# EAGLE library part ASTAR32U4MINI (library weller-eagle)
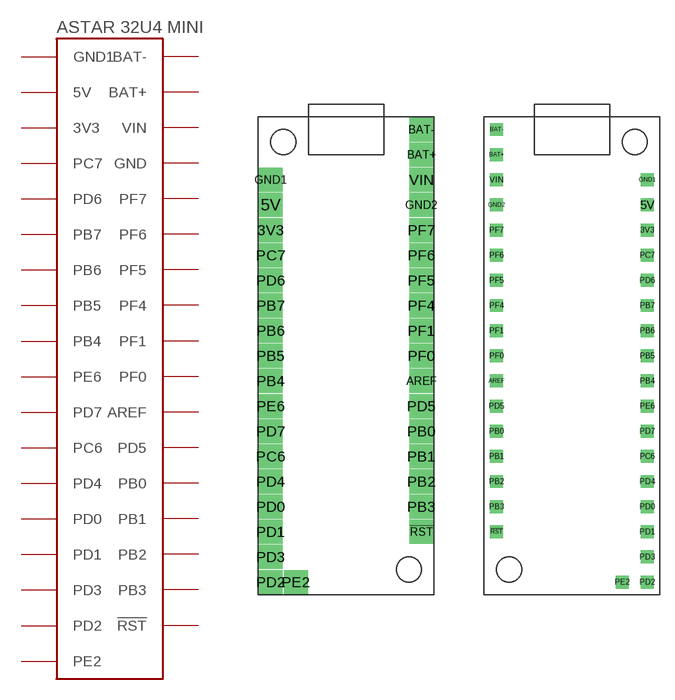
[diagram p1: symbol with the pads of ASTAR32U4MINI; footprints ASTAR32U4MINI, ASTAR32U4MINI-REV]

Designator prefix -

## ASTAR32U4MINI  [ASTAR32U4MINI]
3V3  3V3
5V  5V
!RST  !RST
AREF  AREF
BAT+  BAT+
BAT-  BAT-
GND1  GND
GND2  GND1
PB0  PB0
PB1  PB1
PB2  PB2
PB3  PB3
PB4  PB4
PB5  PB5
PB6  PB6
PB7  PB7
PC6  PC6
PC7  PC7
PD0  PD0
PD1  PD1
PD2  PD2
PD3  PD3
PD4  PD4
PD5  PD5
PD6  PD6
PD7  PD7
PE2  PE2
PE6  PE6
PF0  PF0
PF1  PF1
PF4  PF4
PF5  PF5
PF6  PF6
PF7  PF7
VIN  VIN

## ASTAR32U4MINIMIRROR  [ASTAR32U4MINI-REV]
Pads as for ASTAR32U4MINI

## Footprint ASTAR32U4MINI (pad centres in mm)
drill 1.62 pad 2.134 square: 3V3 1.27,36.83; 5V 1.27,39.37; !RST 16.51,6.35; AREF 16.51,21.59; BAT+ 16.51,44.45; BAT- 16.51,46.99; GND1 1.27,41.91; GND2 16.51,39.37; PB0 16.51,16.51; PB1 16.51,13.97; PB2 16.51,11.43; PB3 16.51,8.89; PB4 1.27,21.59; PB5 1.27,24.13; PB6 1.27,26.67; PB7 1.27,29.21; PC6 1.27,13.97; PC7 1.27,34.29; PD0 1.27,8.89; PD1 1.27,6.35; PD2 1.27,1.27; PD3 1.27,3.81; PD4 1.27,11.43; PD5 16.51,19.05; PD6 1.27,31.75; PD7 1.27,16.51; PE2 3.81,1.27; PE6 1.27,19.05; PF0 16.51,24.13; PF1 16.51,26.67; PF4 16.51,29.21; PF5 16.51,31.75; PF6 16.51,34.29; PF7 16.51,36.83; VIN 16.51,41.91

## Footprint ASTAR32U4MINI-REV (pad centres in mm)
drill 0.8 square: 3V3 16.51,36.83; 5V 16.51,39.37; !RST 1.27,6.35; AREF 1.27,21.59; BAT+ 1.27,44.45; BAT- 1.27,46.99; GND1 16.51,41.91; GND2 1.27,39.37; PB0 1.27,16.51; PB1 1.27,13.97; PB2 1.27,11.43; PB3 1.27,8.89; PB4 16.51,21.59; PB5 16.51,24.13; PB6 16.51,26.67; PB7 16.51,29.21; PC6 16.51,13.97; PC7 16.51,34.29; PD0 16.51,8.89; PD1 16.51,6.35; PD2 16.51,1.27; PD3 16.51,3.81; PD4 16.51,11.43; PD5 1.27,19.05; PD6 16.51,31.75; PD7 16.51,16.51; PE2 13.97,1.27; PE6 16.51,19.05; PF0 1.27,24.13; PF1 1.27,26.67; PF4 1.27,29.21; PF5 1.27,31.75; PF6 1.27,34.29; PF7 1.27,36.83; VIN 1.27,41.91